# Altium integrated library Cypress PLD Flash370i.IntLib: 84 symbols (part 4 of 4)
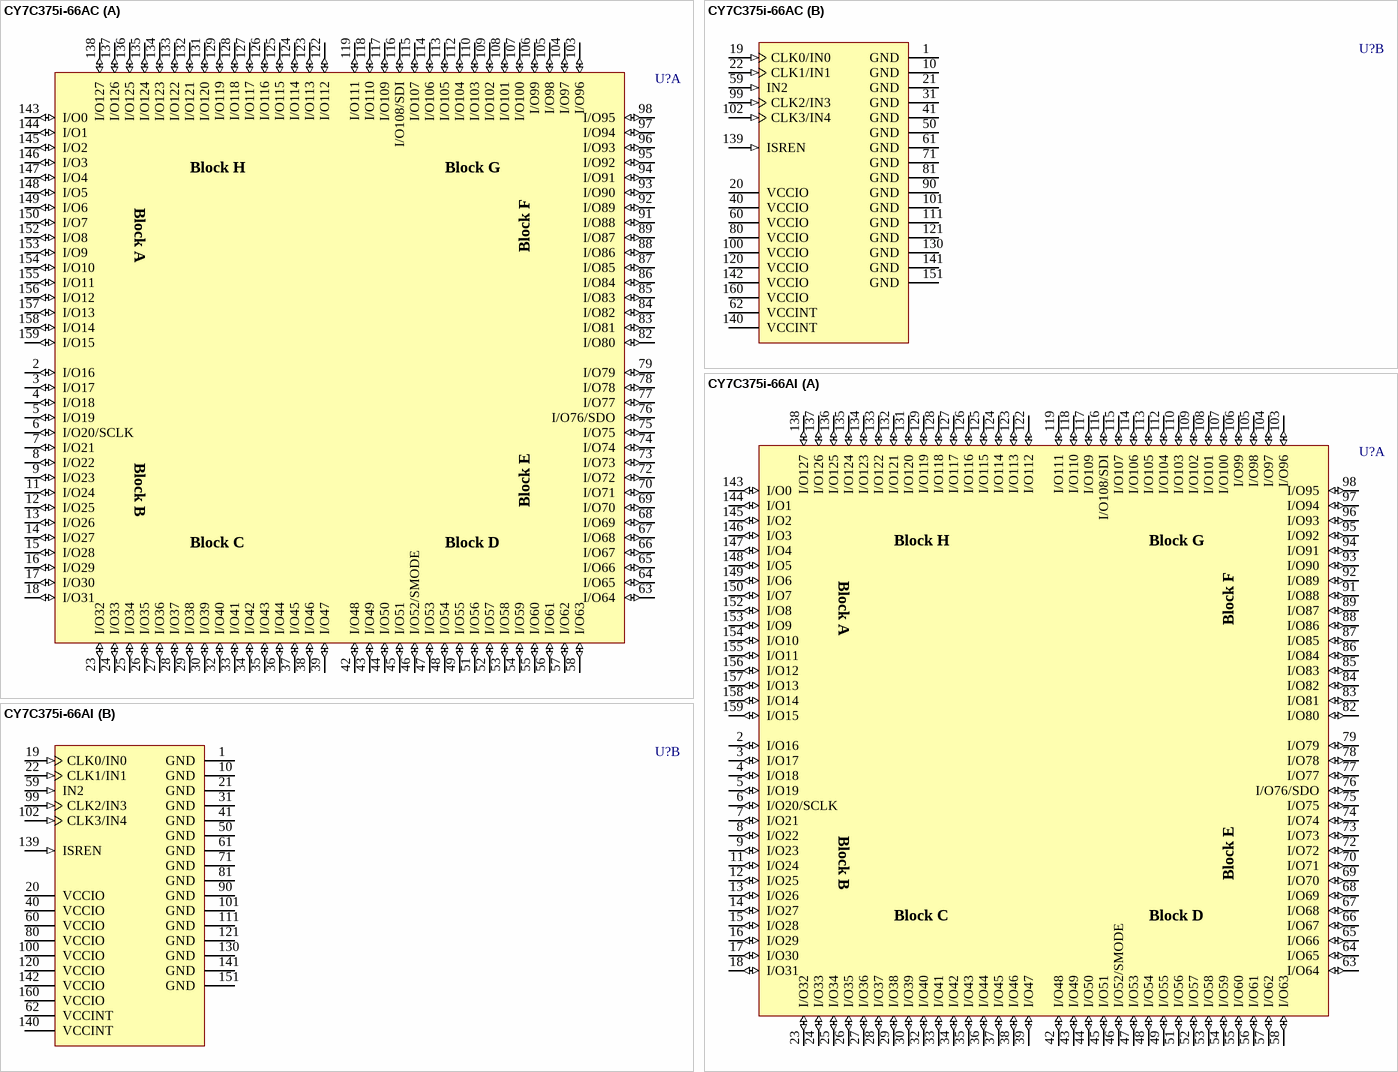
[diagram p22: symbols CY7C375i-66AC to CY7C375i-66AI]

## CY7C375i-66AI
designator U?
Ultralogic 128-Macrocell Flash CPLD; ComponentAvailability: Not for New Design; Published: 11-Dec-2002; LatestRevisionDate: 13-Apr-2006; LatestRevisionNote: IPC-7351 Footprint Added.; DatasheetVersion: 10-Jul-2000; PackageVersion: Mar-2001; PackageReference: A160; Publisher: Altium Limited; PackageDescription: 160-Pin Thin Quad Flat Pack 0.5 mm Pitch; ComponentLink1Description: Manufacturer Link; ComponentLink1URL: http://www.cypress.com/; ComponentLink2Description: Datasheet; ComponentLink2URL: http://www.cypress.com/portal/server.pt/gateway/PTARGS_0_2_1524_209_259_43/http%3B/sjapp20.mis.cypress.com%3B7001/publishedcontent/publish/design_resources/datasheets/contents/cy7c375i_5.pdf
footprint A160_N (Thin QFP, 160-Leads, Body 24x24mm, Pitch 0.5mm, IPC Medium Density)
footprint A160_L (Thin QFP, 160-Leads, Body 24x24mm, Pitch 0.5mm, IPC High Density)
footprint A160_M (Thin QFP, 160-Leads, Body 24x24mm, Pitch 0.5mm, IPC Low Density)
3D model CY7C375i-A160 (160-Pin Thin Quad Flat Pack 0.5 mm Pitch)
part A pins: 2 I/O16 (io), 3 I/O17 (io), 4 I/O18 (io), 5 I/O19 (io), 6 I/O20/SCLK (io), 7 I/O21 (io), 8 I/O22 (io), 9 I/O23 (io), 11 I/O24 (io), 12 I/O25 (io), 13 I/O26 (io), 14 I/O27 (io), 15 I/O28 (io), 16 I/O29 (io), 17 I/O30 (io), 18 I/O31 (io), 23 I/O32 (io), 24 I/O33 (io), 25 I/O34 (io), 26 I/O35 (io), 27 I/O36 (io), 28 I/O37 (io), 29 I/O38 (io), 30 I/O39 (io), 32 I/O40 (io), 33 I/O41 (io), 34 I/O42 (io), 35 I/O43 (io), 36 I/O44 (io), 37 I/O45 (io), 38 I/O46 (io), 39 I/O47 (io), 42 I/O48 (io), 43 I/O49 (io), 44 I/O50 (io), 45 I/O51 (io), 46 I/O52/SMODE (io), 47 I/O53 (io), 48 I/O54 (io), 49 I/O55 (io), 51 I/O56 (io), 52 I/O57 (io), 53 I/O58 (io), 54 I/O59 (io), 55 I/O60 (io), 56 I/O61 (io), 57 I/O62 (io), 58 I/O63 (io), 63 I/O64 (io), 64 I/O65 (io), 65 I/O66 (io), 66 I/O67 (io), 67 I/O68 (io), 68 I/O69 (io), 69 I/O70 (io), 70 I/O71 (io), 72 I/O72 (io), 73 I/O73 (io), 74 I/O74 (io), 75 I/O75 (io), 76 I/O76/SDO (io), 77 I/O77 (io), 78 I/O78 (io), 79 I/O79 (io), 82 I/O80 (io), 83 I/O81 (io), 84 I/O82 (io), 85 I/O83 (io), 86 I/O84 (io), 87 I/O85 (io), 88 I/O86 (io), 89 I/O87 (io), 91 I/O88 (io), 92 I/O89 (io), 93 I/O90 (io), 94 I/O91 (io), 95 I/O92 (io), 96 I/O93 (io), 97 I/O94 (io), 98 I/O95 (io), 103 I/O96 (io), 104 I/O97 (io), 105 I/O98 (io), 106 I/O99 (io), 107 I/O100 (io), 108 I/O101 (io), 109 I/O102 (io), 110 I/O103 (io), 112 I/O104 (io), 113 I/O105 (io), 114 I/O106 (io), 115 I/O107 (io), 116 I/O108/SDI (io), 117 I/O109 (io), 118 I/O110 (io), 119 I/O111 (io), 122 I/O112 (io), 123 I/O113 (io), 124 I/O114 (io), 125 I/O115 (io), 126 I/O116 (io), 127 I/O117 (io), 128 I/O118 (io), 129 I/O119 (io), 131 I/O120 (io), 132 I/O121 (io), 133 I/O122 (io), 134 I/O123 (io), 135 I/O124 (io), 136 I/O125 (io), 137 I/O126 (io), 138 I/O127 (io), 143 I/O0 (io), 144 I/O1 (io), 145 I/O2 (io), 146 I/O3 (io), 147 I/O4 (io), 148 I/O5 (io), 149 I/O6 (io), 150 I/O7 (io), 152 I/O8 (io), 153 I/O9 (io), 154 I/O10 (io), 155 I/O11 (io), 156 I/O12 (io), 157 I/O13 (io), 158 I/O14 (io), 159 I/O15 (io)
part B pins: 1 GND (power), 10 GND (power), 19 CLK0/IN0 (in), 20 VCCIO (power), 21 GND (power), 22 CLK1/IN1 (in), 31 GND (power), 40 VCCIO (power), 41 GND (power), 50 GND (power), 59 IN2 (in), 60 VCCIO (power), 61 GND (power), 62 VCCINT (power), 71 GND (power), 80 VCCIO (power), 81 GND (power), 90 GND (power), 99 CLK2/IN3 (in), 100 VCCIO (power), 101 GND (power), 102 CLK3/IN4 (in), 111 GND (power), 120 VCCIO (power), 121 GND (power), 130 GND (power), 139 ISREN (in), 140 VCCINT (power), 141 GND (power), 142 VCCIO (power), 151 GND (power), 160 VCCIO (power)
part A text: Block H; Block G; Block A; Block F; Block B; Block E; Block C; Block D

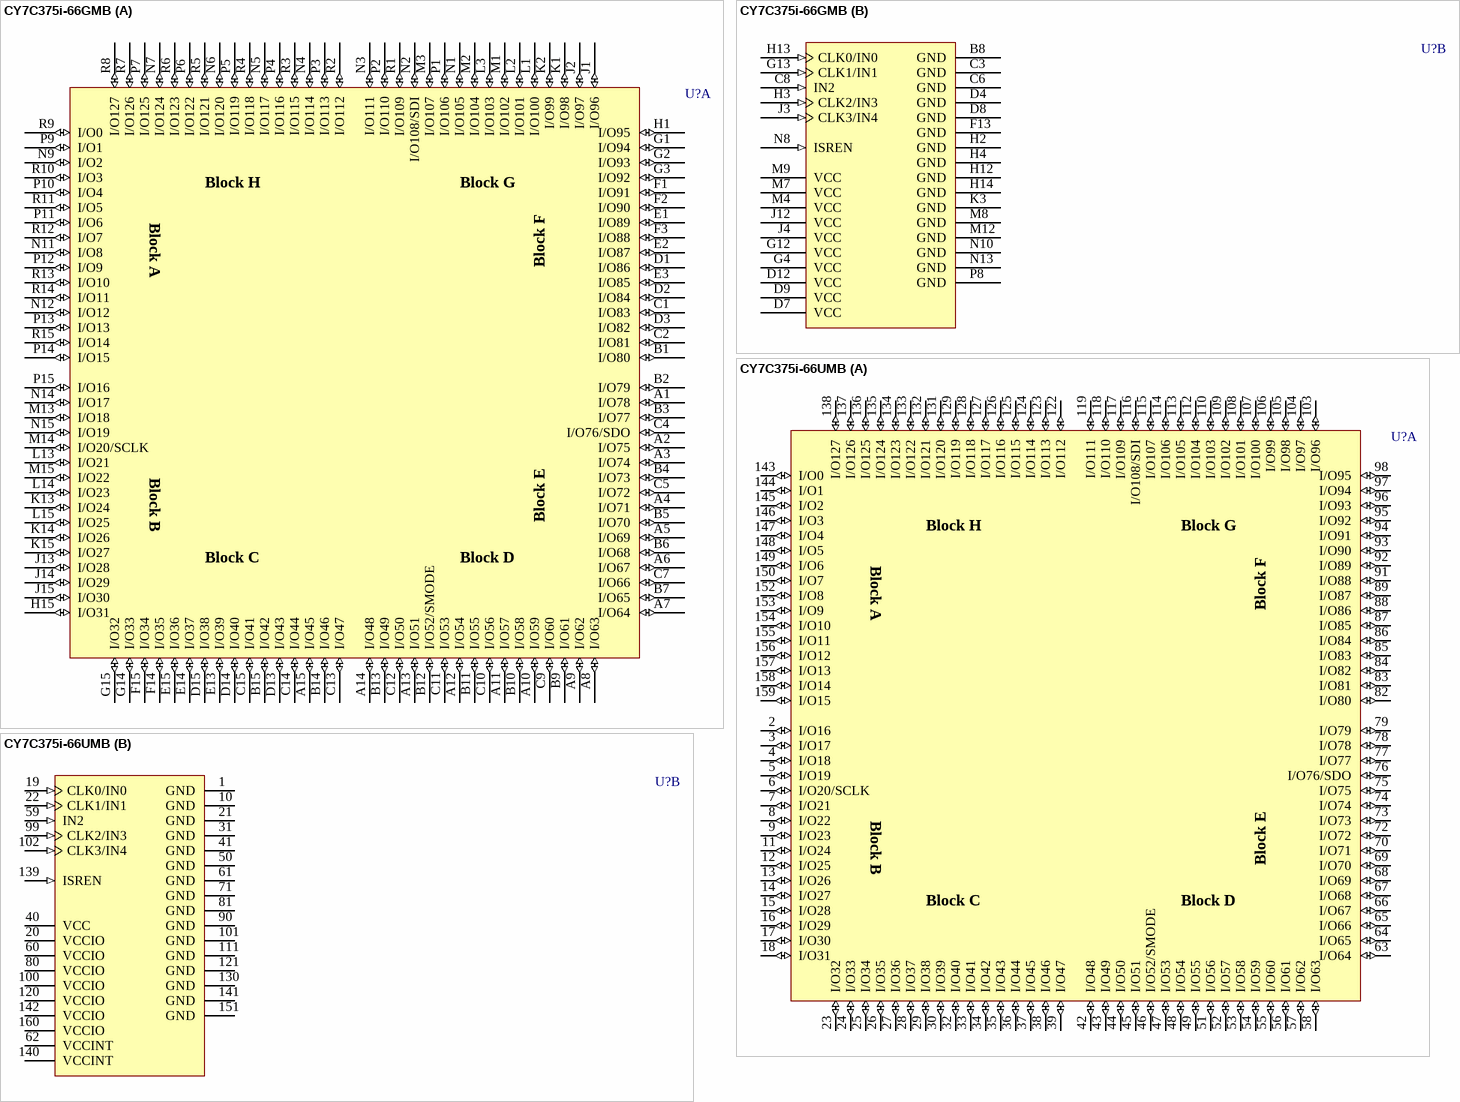
[diagram p14: symbols CY7C375i-66GMB to CY7C375i-66UMB]

## CY7C375i-66GMB
designator U?
Ultralogic 128-Macrocell Flash CPLD; ComponentAvailability: Not for New Design; Published: 11-Dec-2002; LatestRevisionDate: 04-Mar-2005; LatestRevisionNote: Stylized 3D Model Added.; DatasheetVersion: 10-Jul-2000; PackageVersion: Jul-2001; PackageReference: G160; Publisher: Altium Limited; PackageDescription: 160-Pin Pin Grid Array 2.54 mm Pitch; ComponentLink1Description: Manufacturer Link; ComponentLink1URL: http://www.cypress.com/; ComponentLink2Description: Datasheet; ComponentLink2URL: http://www.cypress.com/portal/server.pt/gateway/PTARGS_0_2_1524_209_259_43/http%3B/sjapp20.mis.cypress.com%3B7001/publishedcontent/publish/design_resources/datasheets/contents/cy7c375i_5.pdf
footprint G160 (PGA, 160-Leads, Body 39.8x39.8mm, Pitch 2.54mm)
3D model CY7C375i-G160 (160-Pin Pin Grid Array 2.54 mm Pitch)
part A pins: A1 I/O78 (io), A2 I/O75 (io), A3 I/O74 (io), A4 I/O71 (io), A5 I/O69 (io), A6 I/O67 (io), A7 I/O64 (io), A8 I/O63 (io), A9 I/O62 (io), A10 I/O59 (io), A11 I/O57 (io), A12 I/O54 (io), A13 I/O51 (io), A14 I/O48 (io), A15 I/O45 (io), B1 I/O80 (io), B2 I/O79 (io), B3 I/O77 (io), B4 I/O73 (io), B5 I/O70 (io), B6 I/O68 (io), B7 I/O65 (io), B9 I/O61 (io), B10 I/O58 (io), B11 I/O55 (io), B12 I/O52/SMODE (io), B13 I/O49 (io), B14 I/O46 (io), B15 I/O42 (io), C1 I/O83 (io), C2 I/O81 (io), C4 I/O76/SDO (io), C5 I/O72 (io), C7 I/O66 (io), C9 I/O60 (io), C10 I/O56 (io), C11 I/O53 (io), C12 I/O50 (io), C13 I/O47 (io), C14 I/O44 (io), C15 I/O41 (io), D1 I/O86 (io), D2 I/O84 (io), D3 I/O82 (io), D13 I/O43 (io), D14 I/O40 (io), D15 I/O38 (io), E1 I/O89 (io), E2 I/O87 (io), E3 I/O85 (io), E13 I/O39 (io), E14 I/O37 (io), E15 I/O36 (io), F1 I/O91 (io), F2 I/O90 (io), F3 I/O88 (io), F14 I/O35 (io), F15 I/O34 (io), G1 I/O94 (io), G2 I/O93 (io), G3 I/O92 (io), G14 I/O33 (io), G15 I/O32 (io), H1 I/O95 (io), H15 I/O31 (io), J1 I/O96 (io), J2 I/O97 (io), J13 I/O28 (io), J14 I/O29 (io), J15 I/O30 (io), K1 I/O98 (io), K2 I/O99 (io), K13 I/O24 (io), K14 I/O26 (io), K15 I/O27 (io), L1 I/O100 (io), L2 I/O101 (io), L3 I/O103 (io), L13 I/O21 (io), L14 I/O23 (io), L15 I/O25 (io), M1 I/O102 (io), M2 I/O104 (io), M3 I/O107 (io), M13 I/O18 (io), M14 I/O20/SCLK (io), M15 I/O22 (io), N1 I/O105 (io), N2 I/O108/SDI (io), N3 I/O111 (io), N4 I/O114 (io), N5 I/O117 (io), N6 I/O120 (io), N7 I/O124 (io), N9 I/O2 (io), N11 I/O8 (io), N12 I/O12 (io), N14 I/O17 (io), N15 I/O19 (io), P1 I/O106 (io), P2 I/O110 (io), P3 I/O113 (io), P4 I/O116 (io), P5 I/O119 (io), P6 I/O122 (io), P7 I/O125 (io), P9 I/O1 (io), P10 I/O4 (io), P11 I/O6 (io), P12 I/O9 (io), P13 I/O13 (io), P14 I/O15 (io), P15 I/O16 (io), R1 I/O109 (io), R2 I/O112 (io), R3 I/O115 (io), R4 I/O118 (io), R5 I/O121 (io), R6 I/O123 (io), R7 I/O126 (io), R8 I/O127 (io), R9 I/O0 (io), R10 I/O3 (io), R11 I/O5 (io), R12 I/O7 (io), R13 I/O10 (io), R14 I/O11 (io), R15 I/O14 (io)
part B pins: B8 GND (power), C3 GND (power), C6 GND (power), C8 IN2 (in), D4 GND (power), D7 VCC (power), D8 GND (power), D9 VCC (power), D12 VCC (power), F13 GND (power), G4 VCC (power), G12 VCC (power), G13 CLK1/IN1 (in), H2 GND (power), H3 CLK2/IN3 (in), H4 GND (power), H12 GND (power), H13 CLK0/IN0 (in), H14 GND (power), J3 CLK3/IN4 (in), J4 VCC (power), J12 VCC (power), K3 GND (power), M4 VCC (power), M7 VCC (power), M8 GND (power), M9 VCC (power), M12 GND (power), N8 ISREN (in), N10 GND (power), N13 GND (power), P8 GND (power)
part A text: Block H; Block G; Block A; Block F; Block B; Block E; Block C; Block D

## CY7C375i-66UMB
designator U?
Ultralogic 128-Macrocell Flash CPLD; ComponentAvailability: Not for New Design; Published: 11-Dec-2002; LatestRevisionDate: 13-Apr-2006; LatestRevisionNote: IPC-7351 Footprint Added.; DatasheetVersion: 10-Jul-2000; PackageVersion: Dec-2000; PackageReference: U162; Publisher: Altium Limited; PackageDescription: 160-Pin Ceramic Cavity Up Quad Flat Pack 0.65 mm Pitch; ComponentLink1Description: Manufacturer Link; ComponentLink1URL: http://www.cypress.com/; ComponentLink2Description: Datasheet; ComponentLink2URL: http://www.cypress.com/portal/server.pt/gateway/PTARGS_0_2_1524_209_259_43/http%3B/sjapp20.mis.cypress.com%3B7001/publishedcontent/publish/design_resources/datasheets/contents/cy7c375i_5.pdf
footprint U162_N (QFP, 160-Leads, Body 28 x 28mm, Pitch 0.65mm, IPC Medium Density)
footprint U162_L (QFP, 160-Leads, Body 28 x 28mm, Pitch 0.65mm, IPC High Density)
footprint U162_M (QFP, 160-Leads, Body 28 x 28mm, Pitch 0.65mm, IPC Low Density)
3D model CY7C375i-U162 (160-Pin Ceramic Cavity Up Quad Flat Pack 0.65 mm Pitch)
part A pins: 2 I/O16 (io), 3 I/O17 (io), 4 I/O18 (io), 5 I/O19 (io), 6 I/O20/SCLK (io), 7 I/O21 (io), 8 I/O22 (io), 9 I/O23 (io), 11 I/O24 (io), 12 I/O25 (io), 13 I/O26 (io), 14 I/O27 (io), 15 I/O28 (io), 16 I/O29 (io), 17 I/O30 (io), 18 I/O31 (io), 23 I/O32 (io), 24 I/O33 (io), 25 I/O34 (io), 26 I/O35 (io), 27 I/O36 (io), 28 I/O37 (io), 29 I/O38 (io), 30 I/O39 (io), 32 I/O40 (io), 33 I/O41 (io), 34 I/O42 (io), 35 I/O43 (io), 36 I/O44 (io), 37 I/O45 (io), 38 I/O46 (io), 39 I/O47 (io), 42 I/O48 (io), 43 I/O49 (io), 44 I/O50 (io), 45 I/O51 (io), 46 I/O52/SMODE (io), 47 I/O53 (io), 48 I/O54 (io), 49 I/O55 (io), 51 I/O56 (io), 52 I/O57 (io), 53 I/O58 (io), 54 I/O59 (io), 55 I/O60 (io), 56 I/O61 (io), 57 I/O62 (io), 58 I/O63 (io), 63 I/O64 (io), 64 I/O65 (io), 65 I/O66 (io), 66 I/O67 (io), 67 I/O68 (io), 68 I/O69 (io), 69 I/O70 (io), 70 I/O71 (io), 72 I/O72 (io), 73 I/O73 (io), 74 I/O74 (io), 75 I/O75 (io), 76 I/O76/SDO (io), 77 I/O77 (io), 78 I/O78 (io), 79 I/O79 (io), 82 I/O80 (io), 83 I/O81 (io), 84 I/O82 (io), 85 I/O83 (io), 86 I/O84 (io), 87 I/O85 (io), 88 I/O86 (io), 89 I/O87 (io), 91 I/O88 (io), 92 I/O89 (io), 93 I/O90 (io), 94 I/O91 (io), 95 I/O92 (io), 96 I/O93 (io), 97 I/O94 (io), 98 I/O95 (io), 103 I/O96 (io), 104 I/O97 (io), 105 I/O98 (io), 106 I/O99 (io), 107 I/O100 (io), 108 I/O101 (io), 109 I/O102 (io), 110 I/O103 (io), 112 I/O104 (io), 113 I/O105 (io), 114 I/O106 (io), 115 I/O107 (io), 116 I/O108/SDI (io), 117 I/O109 (io), 118 I/O110 (io), 119 I/O111 (io), 122 I/O112 (io), 123 I/O113 (io), 124 I/O114 (io), 125 I/O115 (io), 126 I/O116 (io), 127 I/O117 (io), 128 I/O118 (io), 129 I/O119 (io), 131 I/O120 (io), 132 I/O121 (io), 133 I/O122 (io), 134 I/O123 (io), 135 I/O124 (io), 136 I/O125 (io), 137 I/O126 (io), 138 I/O127 (io), 143 I/O0 (io), 144 I/O1 (io), 145 I/O2 (io), 146 I/O3 (io), 147 I/O4 (io), 148 I/O5 (io), 149 I/O6 (io), 150 I/O7 (io), 152 I/O8 (io), 153 I/O9 (io), 154 I/O10 (io), 155 I/O11 (io), 156 I/O12 (io), 157 I/O13 (io), 158 I/O14 (io), 159 I/O15 (io)
part B pins: 1 GND (power), 10 GND (power), 19 CLK0/IN0 (in), 20 VCCIO (power), 21 GND (power), 22 CLK1/IN1 (in), 31 GND (power), 40 VCC (power), 41 GND (power), 50 GND (power), 59 IN2 (in), 60 VCCIO (power), 61 GND (power), 62 VCCINT (power), 71 GND (power), 80 VCCIO (power), 81 GND (power), 90 GND (power), 99 CLK2/IN3 (in), 100 VCCIO (power), 101 GND (power), 102 CLK3/IN4 (in), 111 GND (power), 120 VCCIO (power), 121 GND (power), 130 GND (power), 139 ISREN (in), 140 VCCINT (power), 141 GND (power), 142 VCCIO (power), 151 GND (power), 160 VCCIO (power)
part A text: Block H; Block G; Block A; Block F; Block B; Block E; Block C; Block D

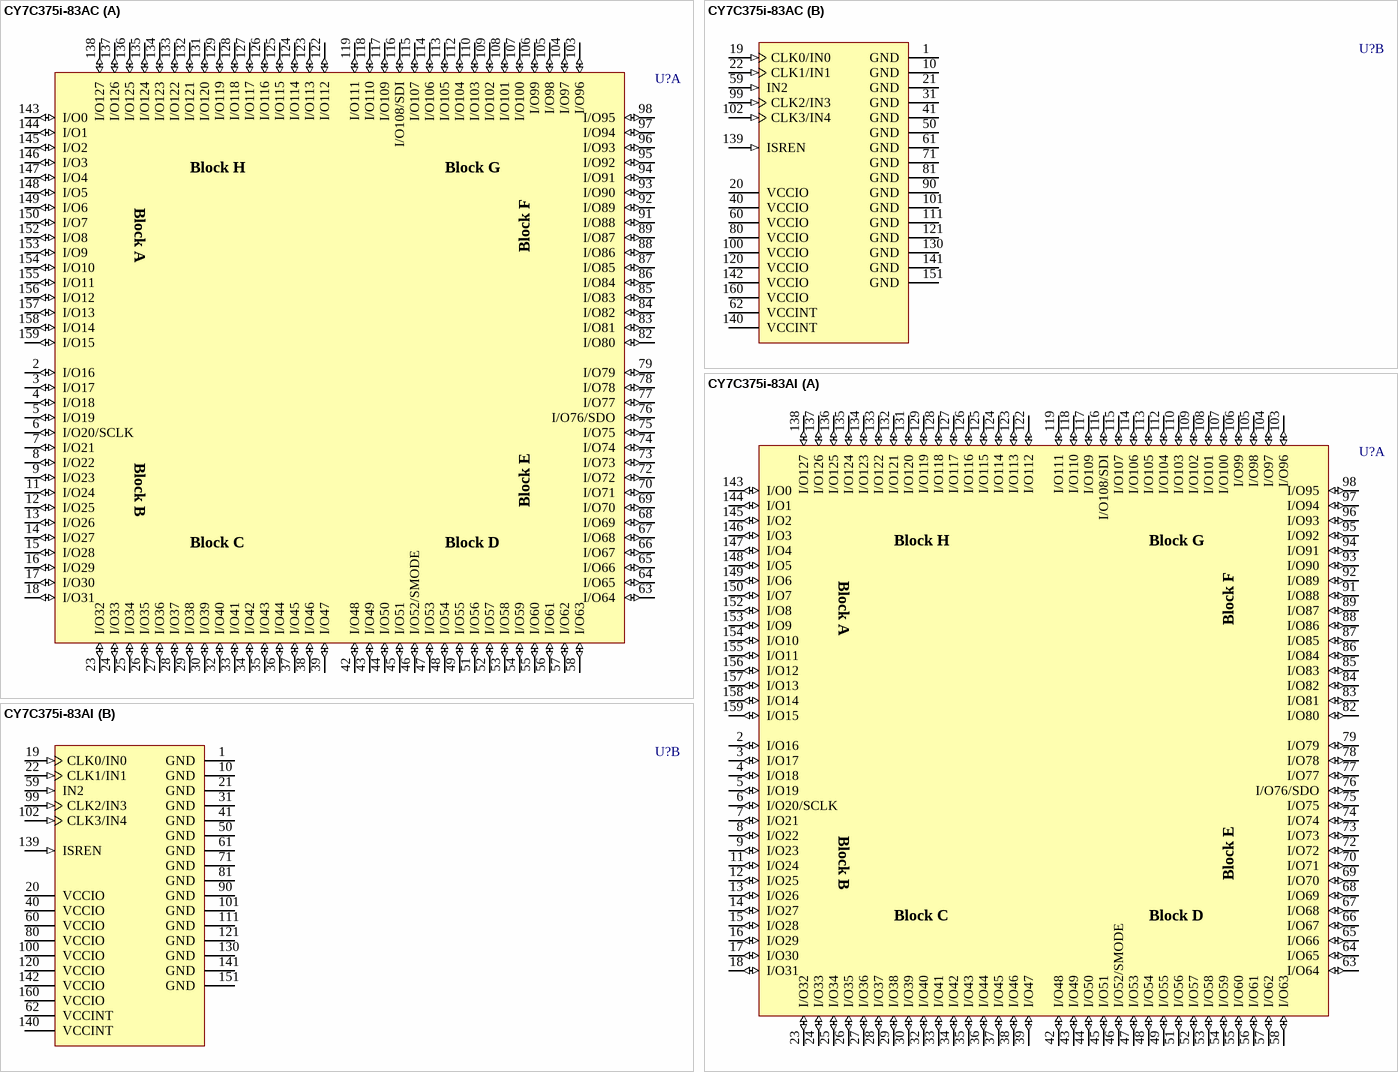
[diagram p15: symbols CY7C375i-83AC to CY7C375i-83AI]

## CY7C375i-83AC
designator U?
Ultralogic 128-Macrocell Flash CPLD; ComponentAvailability: Not for New Design; Published: 11-Dec-2002; LatestRevisionDate: 13-Apr-2006; LatestRevisionNote: IPC-7351 Footprint Added.; DatasheetVersion: 10-Jul-2000; PackageVersion: Mar-2001; PackageReference: A160; Publisher: Altium Limited; PackageDescription: 160-Pin Thin Quad Flat Pack 0.5 mm Pitch; ComponentLink1Description: Manufacturer Link; ComponentLink1URL: http://www.cypress.com/; ComponentLink2Description: Datasheet; ComponentLink2URL: http://www.cypress.com/portal/server.pt/gateway/PTARGS_0_2_1524_209_259_43/http%3B/sjapp20.mis.cypress.com%3B7001/publishedcontent/publish/design_resources/datasheets/contents/cy7c375i_5.pdf
footprint A160_N (Thin QFP, 160-Leads, Body 24x24mm, Pitch 0.5mm, IPC Medium Density)
footprint A160_L (Thin QFP, 160-Leads, Body 24x24mm, Pitch 0.5mm, IPC High Density)
footprint A160_M (Thin QFP, 160-Leads, Body 24x24mm, Pitch 0.5mm, IPC Low Density)
3D model CY7C375i-A160 (160-Pin Thin Quad Flat Pack 0.5 mm Pitch)
part A pins: 2 I/O16 (io), 3 I/O17 (io), 4 I/O18 (io), 5 I/O19 (io), 6 I/O20/SCLK (io), 7 I/O21 (io), 8 I/O22 (io), 9 I/O23 (io), 11 I/O24 (io), 12 I/O25 (io), 13 I/O26 (io), 14 I/O27 (io), 15 I/O28 (io), 16 I/O29 (io), 17 I/O30 (io), 18 I/O31 (io), 23 I/O32 (io), 24 I/O33 (io), 25 I/O34 (io), 26 I/O35 (io), 27 I/O36 (io), 28 I/O37 (io), 29 I/O38 (io), 30 I/O39 (io), 32 I/O40 (io), 33 I/O41 (io), 34 I/O42 (io), 35 I/O43 (io), 36 I/O44 (io), 37 I/O45 (io), 38 I/O46 (io), 39 I/O47 (io), 42 I/O48 (io), 43 I/O49 (io), 44 I/O50 (io), 45 I/O51 (io), 46 I/O52/SMODE (io), 47 I/O53 (io), 48 I/O54 (io), 49 I/O55 (io), 51 I/O56 (io), 52 I/O57 (io), 53 I/O58 (io), 54 I/O59 (io), 55 I/O60 (io), 56 I/O61 (io), 57 I/O62 (io), 58 I/O63 (io), 63 I/O64 (io), 64 I/O65 (io), 65 I/O66 (io), 66 I/O67 (io), 67 I/O68 (io), 68 I/O69 (io), 69 I/O70 (io), 70 I/O71 (io), 72 I/O72 (io), 73 I/O73 (io), 74 I/O74 (io), 75 I/O75 (io), 76 I/O76/SDO (io), 77 I/O77 (io), 78 I/O78 (io), 79 I/O79 (io), 82 I/O80 (io), 83 I/O81 (io), 84 I/O82 (io), 85 I/O83 (io), 86 I/O84 (io), 87 I/O85 (io), 88 I/O86 (io), 89 I/O87 (io), 91 I/O88 (io), 92 I/O89 (io), 93 I/O90 (io), 94 I/O91 (io), 95 I/O92 (io), 96 I/O93 (io), 97 I/O94 (io), 98 I/O95 (io), 103 I/O96 (io), 104 I/O97 (io), 105 I/O98 (io), 106 I/O99 (io), 107 I/O100 (io), 108 I/O101 (io), 109 I/O102 (io), 110 I/O103 (io), 112 I/O104 (io), 113 I/O105 (io), 114 I/O106 (io), 115 I/O107 (io), 116 I/O108/SDI (io), 117 I/O109 (io), 118 I/O110 (io), 119 I/O111 (io), 122 I/O112 (io), 123 I/O113 (io), 124 I/O114 (io), 125 I/O115 (io), 126 I/O116 (io), 127 I/O117 (io), 128 I/O118 (io), 129 I/O119 (io), 131 I/O120 (io), 132 I/O121 (io), 133 I/O122 (io), 134 I/O123 (io), 135 I/O124 (io), 136 I/O125 (io), 137 I/O126 (io), 138 I/O127 (io), 143 I/O0 (io), 144 I/O1 (io), 145 I/O2 (io), 146 I/O3 (io), 147 I/O4 (io), 148 I/O5 (io), 149 I/O6 (io), 150 I/O7 (io), 152 I/O8 (io), 153 I/O9 (io), 154 I/O10 (io), 155 I/O11 (io), 156 I/O12 (io), 157 I/O13 (io), 158 I/O14 (io), 159 I/O15 (io)
part B pins: 1 GND (power), 10 GND (power), 19 CLK0/IN0 (in), 20 VCCIO (power), 21 GND (power), 22 CLK1/IN1 (in), 31 GND (power), 40 VCCIO (power), 41 GND (power), 50 GND (power), 59 IN2 (in), 60 VCCIO (power), 61 GND (power), 62 VCCINT (power), 71 GND (power), 80 VCCIO (power), 81 GND (power), 90 GND (power), 99 CLK2/IN3 (in), 100 VCCIO (power), 101 GND (power), 102 CLK3/IN4 (in), 111 GND (power), 120 VCCIO (power), 121 GND (power), 130 GND (power), 139 ISREN (in), 140 VCCINT (power), 141 GND (power), 142 VCCIO (power), 151 GND (power), 160 VCCIO (power)
part A text: Block H; Block G; Block A; Block F; Block B; Block E; Block C; Block D

## CY7C375i-83AI
designator U?
Ultralogic 128-Macrocell Flash CPLD; ComponentAvailability: Not for New Design; Published: 11-Dec-2002; LatestRevisionDate: 13-Apr-2006; LatestRevisionNote: IPC-7351 Footprint Added.; DatasheetVersion: 10-Jul-2000; PackageVersion: Mar-2001; PackageReference: A160; Publisher: Altium Limited; PackageDescription: 160-Pin Thin Quad Flat Pack 0.5 mm Pitch; ComponentLink1Description: Manufacturer Link; ComponentLink1URL: http://www.cypress.com/; ComponentLink2Description: Datasheet; ComponentLink2URL: http://www.cypress.com/portal/server.pt/gateway/PTARGS_0_2_1524_209_259_43/http%3B/sjapp20.mis.cypress.com%3B7001/publishedcontent/publish/design_resources/datasheets/contents/cy7c375i_5.pdf
footprint A160_N (Thin QFP, 160-Leads, Body 24x24mm, Pitch 0.5mm, IPC Medium Density)
footprint A160_L (Thin QFP, 160-Leads, Body 24x24mm, Pitch 0.5mm, IPC High Density)
footprint A160_M (Thin QFP, 160-Leads, Body 24x24mm, Pitch 0.5mm, IPC Low Density)
3D model CY7C375i-A160 (160-Pin Thin Quad Flat Pack 0.5 mm Pitch)
part A pins: 2 I/O16 (io), 3 I/O17 (io), 4 I/O18 (io), 5 I/O19 (io), 6 I/O20/SCLK (io), 7 I/O21 (io), 8 I/O22 (io), 9 I/O23 (io), 11 I/O24 (io), 12 I/O25 (io), 13 I/O26 (io), 14 I/O27 (io), 15 I/O28 (io), 16 I/O29 (io), 17 I/O30 (io), 18 I/O31 (io), 23 I/O32 (io), 24 I/O33 (io), 25 I/O34 (io), 26 I/O35 (io), 27 I/O36 (io), 28 I/O37 (io), 29 I/O38 (io), 30 I/O39 (io), 32 I/O40 (io), 33 I/O41 (io), 34 I/O42 (io), 35 I/O43 (io), 36 I/O44 (io), 37 I/O45 (io), 38 I/O46 (io), 39 I/O47 (io), 42 I/O48 (io), 43 I/O49 (io), 44 I/O50 (io), 45 I/O51 (io), 46 I/O52/SMODE (io), 47 I/O53 (io), 48 I/O54 (io), 49 I/O55 (io), 51 I/O56 (io), 52 I/O57 (io), 53 I/O58 (io), 54 I/O59 (io), 55 I/O60 (io), 56 I/O61 (io), 57 I/O62 (io), 58 I/O63 (io), 63 I/O64 (io), 64 I/O65 (io), 65 I/O66 (io), 66 I/O67 (io), 67 I/O68 (io), 68 I/O69 (io), 69 I/O70 (io), 70 I/O71 (io), 72 I/O72 (io), 73 I/O73 (io), 74 I/O74 (io), 75 I/O75 (io), 76 I/O76/SDO (io), 77 I/O77 (io), 78 I/O78 (io), 79 I/O79 (io), 82 I/O80 (io), 83 I/O81 (io), 84 I/O82 (io), 85 I/O83 (io), 86 I/O84 (io), 87 I/O85 (io), 88 I/O86 (io), 89 I/O87 (io), 91 I/O88 (io), 92 I/O89 (io), 93 I/O90 (io), 94 I/O91 (io), 95 I/O92 (io), 96 I/O93 (io), 97 I/O94 (io), 98 I/O95 (io), 103 I/O96 (io), 104 I/O97 (io), 105 I/O98 (io), 106 I/O99 (io), 107 I/O100 (io), 108 I/O101 (io), 109 I/O102 (io), 110 I/O103 (io), 112 I/O104 (io), 113 I/O105 (io), 114 I/O106 (io), 115 I/O107 (io), 116 I/O108/SDI (io), 117 I/O109 (io), 118 I/O110 (io), 119 I/O111 (io), 122 I/O112 (io), 123 I/O113 (io), 124 I/O114 (io), 125 I/O115 (io), 126 I/O116 (io), 127 I/O117 (io), 128 I/O118 (io), 129 I/O119 (io), 131 I/O120 (io), 132 I/O121 (io), 133 I/O122 (io), 134 I/O123 (io), 135 I/O124 (io), 136 I/O125 (io), 137 I/O126 (io), 138 I/O127 (io), 143 I/O0 (io), 144 I/O1 (io), 145 I/O2 (io), 146 I/O3 (io), 147 I/O4 (io), 148 I/O5 (io), 149 I/O6 (io), 150 I/O7 (io), 152 I/O8 (io), 153 I/O9 (io), 154 I/O10 (io), 155 I/O11 (io), 156 I/O12 (io), 157 I/O13 (io), 158 I/O14 (io), 159 I/O15 (io)
part B pins: 1 GND (power), 10 GND (power), 19 CLK0/IN0 (in), 20 VCCIO (power), 21 GND (power), 22 CLK1/IN1 (in), 31 GND (power), 40 VCCIO (power), 41 GND (power), 50 GND (power), 59 IN2 (in), 60 VCCIO (power), 61 GND (power), 62 VCCINT (power), 71 GND (power), 80 VCCIO (power), 81 GND (power), 90 GND (power), 99 CLK2/IN3 (in), 100 VCCIO (power), 101 GND (power), 102 CLK3/IN4 (in), 111 GND (power), 120 VCCIO (power), 121 GND (power), 130 GND (power), 139 ISREN (in), 140 VCCINT (power), 141 GND (power), 142 VCCIO (power), 151 GND (power), 160 VCCIO (power)
part A text: Block H; Block G; Block A; Block F; Block B; Block E; Block C; Block D

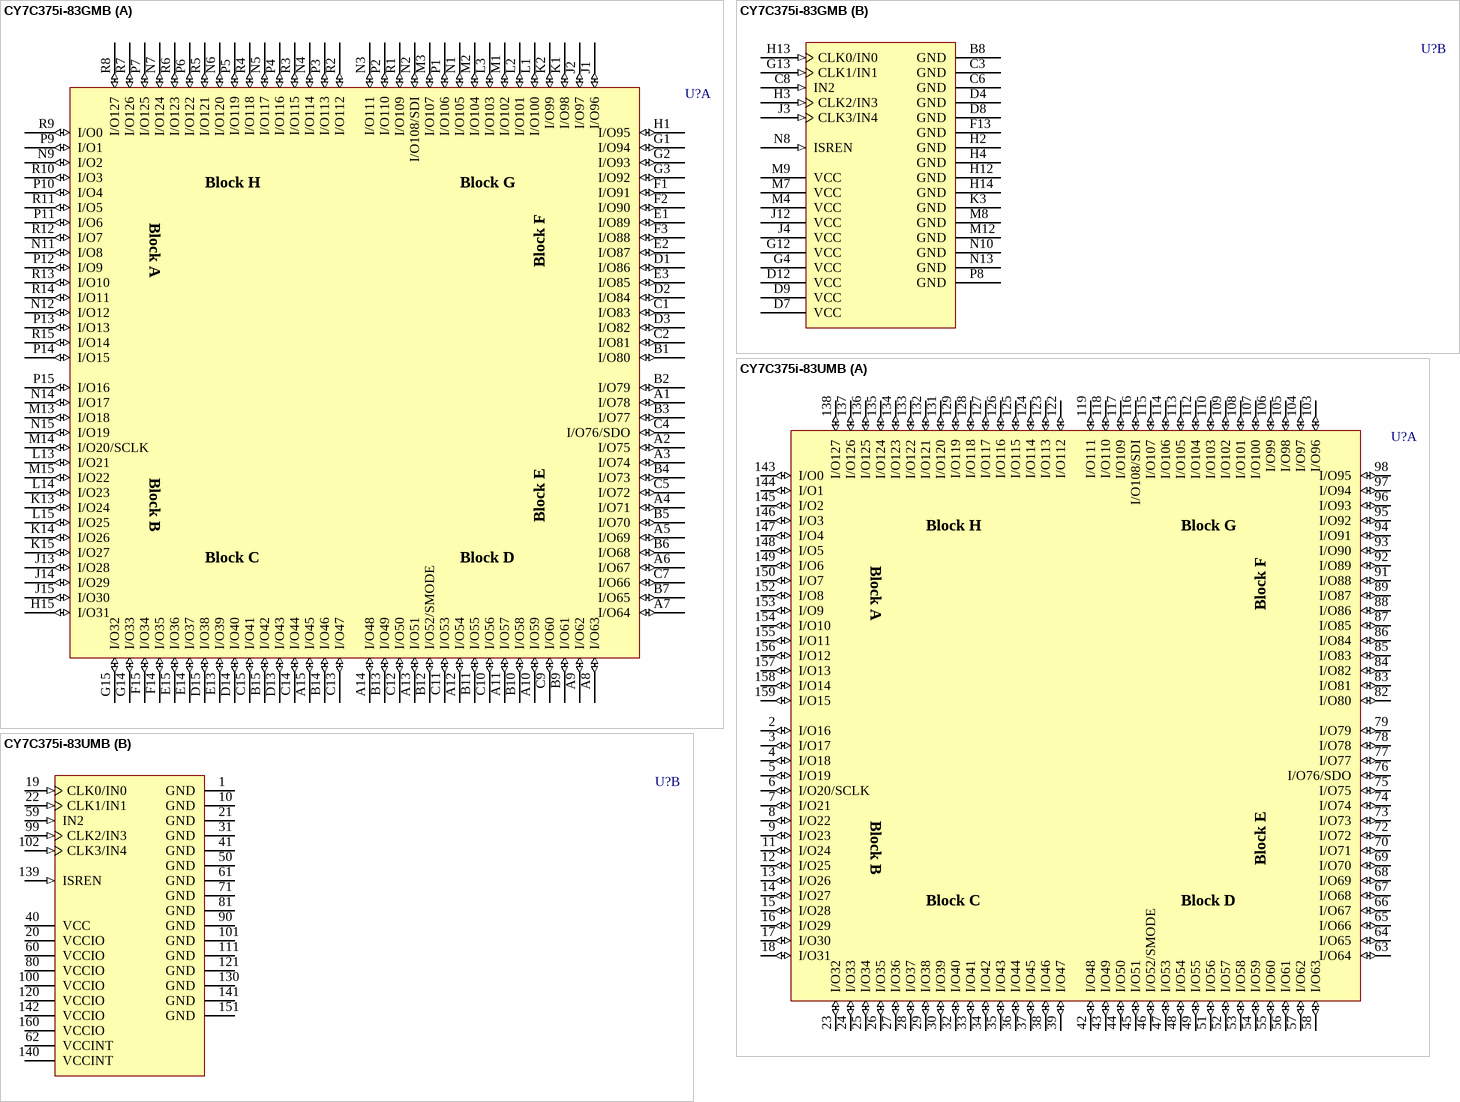
[diagram p16: symbols CY7C375i-83GMB to CY7C375i-83UMB]

## CY7C375i-83GMB
designator U?
Ultralogic 128-Macrocell Flash CPLD; ComponentAvailability: Not for New Design; Published: 11-Dec-2002; LatestRevisionDate: 04-Mar-2005; LatestRevisionNote: Stylized 3D Model Added.; DatasheetVersion: 10-Jul-2000; PackageVersion: Jul-2001; PackageReference: G160; Publisher: Altium Limited; PackageDescription: 160-Pin Pin Grid Array 2.54 mm Pitch; ComponentLink1Description: Manufacturer Link; ComponentLink1URL: http://www.cypress.com/; ComponentLink2Description: Datasheet; ComponentLink2URL: http://www.cypress.com/portal/server.pt/gateway/PTARGS_0_2_1524_209_259_43/http%3B/sjapp20.mis.cypress.com%3B7001/publishedcontent/publish/design_resources/datasheets/contents/cy7c375i_5.pdf
footprint G160 (PGA, 160-Leads, Body 39.8x39.8mm, Pitch 2.54mm)
3D model CY7C375i-G160 (160-Pin Pin Grid Array 2.54 mm Pitch)
part A pins: A1 I/O78 (io), A2 I/O75 (io), A3 I/O74 (io), A4 I/O71 (io), A5 I/O69 (io), A6 I/O67 (io), A7 I/O64 (io), A8 I/O63 (io), A9 I/O62 (io), A10 I/O59 (io), A11 I/O57 (io), A12 I/O54 (io), A13 I/O51 (io), A14 I/O48 (io), A15 I/O45 (io), B1 I/O80 (io), B2 I/O79 (io), B3 I/O77 (io), B4 I/O73 (io), B5 I/O70 (io), B6 I/O68 (io), B7 I/O65 (io), B9 I/O61 (io), B10 I/O58 (io), B11 I/O55 (io), B12 I/O52/SMODE (io), B13 I/O49 (io), B14 I/O46 (io), B15 I/O42 (io), C1 I/O83 (io), C2 I/O81 (io), C4 I/O76/SDO (io), C5 I/O72 (io), C7 I/O66 (io), C9 I/O60 (io), C10 I/O56 (io), C11 I/O53 (io), C12 I/O50 (io), C13 I/O47 (io), C14 I/O44 (io), C15 I/O41 (io), D1 I/O86 (io), D2 I/O84 (io), D3 I/O82 (io), D13 I/O43 (io), D14 I/O40 (io), D15 I/O38 (io), E1 I/O89 (io), E2 I/O87 (io), E3 I/O85 (io), E13 I/O39 (io), E14 I/O37 (io), E15 I/O36 (io), F1 I/O91 (io), F2 I/O90 (io), F3 I/O88 (io), F14 I/O35 (io), F15 I/O34 (io), G1 I/O94 (io), G2 I/O93 (io), G3 I/O92 (io), G14 I/O33 (io), G15 I/O32 (io), H1 I/O95 (io), H15 I/O31 (io), J1 I/O96 (io), J2 I/O97 (io), J13 I/O28 (io), J14 I/O29 (io), J15 I/O30 (io), K1 I/O98 (io), K2 I/O99 (io), K13 I/O24 (io), K14 I/O26 (io), K15 I/O27 (io), L1 I/O100 (io), L2 I/O101 (io), L3 I/O103 (io), L13 I/O21 (io), L14 I/O23 (io), L15 I/O25 (io), M1 I/O102 (io), M2 I/O104 (io), M3 I/O107 (io), M13 I/O18 (io), M14 I/O20/SCLK (io), M15 I/O22 (io), N1 I/O105 (io), N2 I/O108/SDI (io), N3 I/O111 (io), N4 I/O114 (io), N5 I/O117 (io), N6 I/O120 (io), N7 I/O124 (io), N9 I/O2 (io), N11 I/O8 (io), N12 I/O12 (io), N14 I/O17 (io), N15 I/O19 (io), P1 I/O106 (io), P2 I/O110 (io), P3 I/O113 (io), P4 I/O116 (io), P5 I/O119 (io), P6 I/O122 (io), P7 I/O125 (io), P9 I/O1 (io), P10 I/O4 (io), P11 I/O6 (io), P12 I/O9 (io), P13 I/O13 (io), P14 I/O15 (io), P15 I/O16 (io), R1 I/O109 (io), R2 I/O112 (io), R3 I/O115 (io), R4 I/O118 (io), R5 I/O121 (io), R6 I/O123 (io), R7 I/O126 (io), R8 I/O127 (io), R9 I/O0 (io), R10 I/O3 (io), R11 I/O5 (io), R12 I/O7 (io), R13 I/O10 (io), R14 I/O11 (io), R15 I/O14 (io)
part B pins: B8 GND (power), C3 GND (power), C6 GND (power), C8 IN2 (in), D4 GND (power), D7 VCC (power), D8 GND (power), D9 VCC (power), D12 VCC (power), F13 GND (power), G4 VCC (power), G12 VCC (power), G13 CLK1/IN1 (in), H2 GND (power), H3 CLK2/IN3 (in), H4 GND (power), H12 GND (power), H13 CLK0/IN0 (in), H14 GND (power), J3 CLK3/IN4 (in), J4 VCC (power), J12 VCC (power), K3 GND (power), M4 VCC (power), M7 VCC (power), M8 GND (power), M9 VCC (power), M12 GND (power), N8 ISREN (in), N10 GND (power), N13 GND (power), P8 GND (power)
part A text: Block H; Block G; Block A; Block F; Block B; Block E; Block C; Block D

## CY7C375i-83UMB
designator U?
Ultralogic 128-Macrocell Flash CPLD; ComponentAvailability: Not for New Design; Published: 11-Dec-2002; LatestRevisionDate: 13-Apr-2006; LatestRevisionNote: IPC-7351 Footprint Added.; DatasheetVersion: 10-Jul-2000; PackageVersion: Dec-2000; PackageReference: U162; Publisher: Altium Limited; PackageDescription: 160-Pin Ceramic Cavity Up Quad Flat Pack 0.65 mm Pitch; ComponentLink1Description: Manufacturer Link; ComponentLink1URL: http://www.cypress.com/; ComponentLink2Description: Datasheet; ComponentLink2URL: http://www.cypress.com/portal/server.pt/gateway/PTARGS_0_2_1524_209_259_43/http%3B/sjapp20.mis.cypress.com%3B7001/publishedcontent/publish/design_resources/datasheets/contents/cy7c375i_5.pdf
footprint U162_N (QFP, 160-Leads, Body 28 x 28mm, Pitch 0.65mm, IPC Medium Density)
footprint U162_L (QFP, 160-Leads, Body 28 x 28mm, Pitch 0.65mm, IPC High Density)
footprint U162_M (QFP, 160-Leads, Body 28 x 28mm, Pitch 0.65mm, IPC Low Density)
3D model CY7C375i-U162 (160-Pin Ceramic Cavity Up Quad Flat Pack 0.65 mm Pitch)
part A pins: 2 I/O16 (io), 3 I/O17 (io), 4 I/O18 (io), 5 I/O19 (io), 6 I/O20/SCLK (io), 7 I/O21 (io), 8 I/O22 (io), 9 I/O23 (io), 11 I/O24 (io), 12 I/O25 (io), 13 I/O26 (io), 14 I/O27 (io), 15 I/O28 (io), 16 I/O29 (io), 17 I/O30 (io), 18 I/O31 (io), 23 I/O32 (io), 24 I/O33 (io), 25 I/O34 (io), 26 I/O35 (io), 27 I/O36 (io), 28 I/O37 (io), 29 I/O38 (io), 30 I/O39 (io), 32 I/O40 (io), 33 I/O41 (io), 34 I/O42 (io), 35 I/O43 (io), 36 I/O44 (io), 37 I/O45 (io), 38 I/O46 (io), 39 I/O47 (io), 42 I/O48 (io), 43 I/O49 (io), 44 I/O50 (io), 45 I/O51 (io), 46 I/O52/SMODE (io), 47 I/O53 (io), 48 I/O54 (io), 49 I/O55 (io), 51 I/O56 (io), 52 I/O57 (io), 53 I/O58 (io), 54 I/O59 (io), 55 I/O60 (io), 56 I/O61 (io), 57 I/O62 (io), 58 I/O63 (io), 63 I/O64 (io), 64 I/O65 (io), 65 I/O66 (io), 66 I/O67 (io), 67 I/O68 (io), 68 I/O69 (io), 69 I/O70 (io), 70 I/O71 (io), 72 I/O72 (io), 73 I/O73 (io), 74 I/O74 (io), 75 I/O75 (io), 76 I/O76/SDO (io), 77 I/O77 (io), 78 I/O78 (io), 79 I/O79 (io), 82 I/O80 (io), 83 I/O81 (io), 84 I/O82 (io), 85 I/O83 (io), 86 I/O84 (io), 87 I/O85 (io), 88 I/O86 (io), 89 I/O87 (io), 91 I/O88 (io), 92 I/O89 (io), 93 I/O90 (io), 94 I/O91 (io), 95 I/O92 (io), 96 I/O93 (io), 97 I/O94 (io), 98 I/O95 (io), 103 I/O96 (io), 104 I/O97 (io), 105 I/O98 (io), 106 I/O99 (io), 107 I/O100 (io), 108 I/O101 (io), 109 I/O102 (io), 110 I/O103 (io), 112 I/O104 (io), 113 I/O105 (io), 114 I/O106 (io), 115 I/O107 (io), 116 I/O108/SDI (io), 117 I/O109 (io), 118 I/O110 (io), 119 I/O111 (io), 122 I/O112 (io), 123 I/O113 (io), 124 I/O114 (io), 125 I/O115 (io), 126 I/O116 (io), 127 I/O117 (io), 128 I/O118 (io), 129 I/O119 (io), 131 I/O120 (io), 132 I/O121 (io), 133 I/O122 (io), 134 I/O123 (io), 135 I/O124 (io), 136 I/O125 (io), 137 I/O126 (io), 138 I/O127 (io), 143 I/O0 (io), 144 I/O1 (io), 145 I/O2 (io), 146 I/O3 (io), 147 I/O4 (io), 148 I/O5 (io), 149 I/O6 (io), 150 I/O7 (io), 152 I/O8 (io), 153 I/O9 (io), 154 I/O10 (io), 155 I/O11 (io), 156 I/O12 (io), 157 I/O13 (io), 158 I/O14 (io), 159 I/O15 (io)
part B pins: 1 GND (power), 10 GND (power), 19 CLK0/IN0 (in), 20 VCCIO (power), 21 GND (power), 22 CLK1/IN1 (in), 31 GND (power), 40 VCC (power), 41 GND (power), 50 GND (power), 59 IN2 (in), 60 VCCIO (power), 61 GND (power), 62 VCCINT (power), 71 GND (power), 80 VCCIO (power), 81 GND (power), 90 GND (power), 99 CLK2/IN3 (in), 100 VCCIO (power), 101 GND (power), 102 CLK3/IN4 (in), 111 GND (power), 120 VCCIO (power), 121 GND (power), 130 GND (power), 139 ISREN (in), 140 VCCINT (power), 141 GND (power), 142 VCCIO (power), 151 GND (power), 160 VCCIO (power)
part A text: Block H; Block G; Block A; Block F; Block B; Block E; Block C; Block D

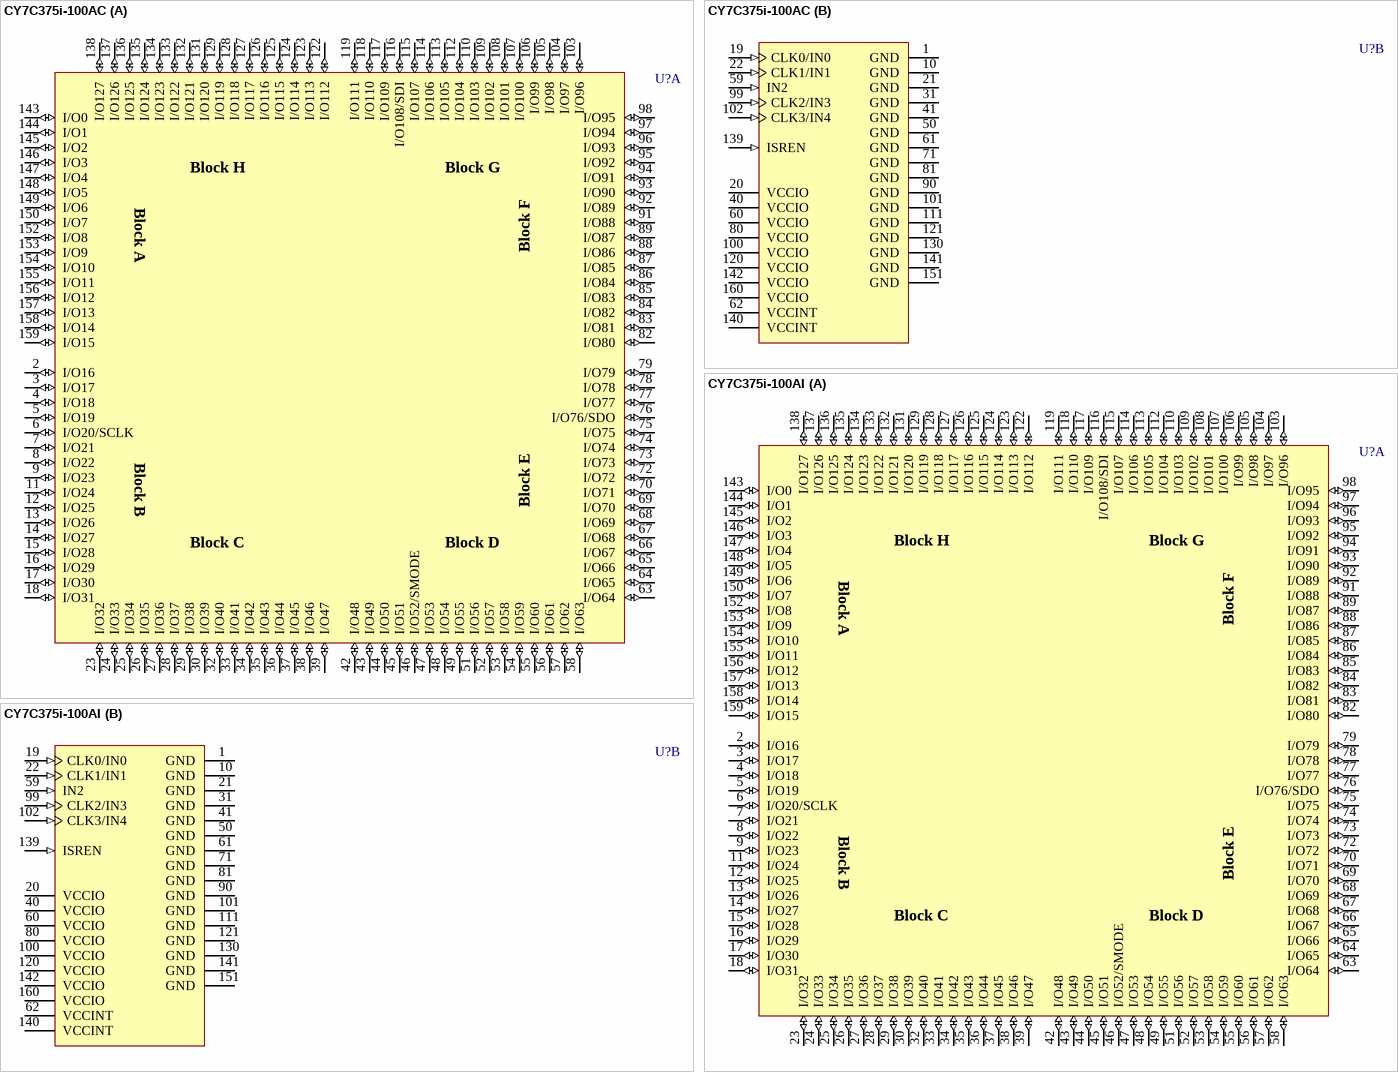
[diagram p17: symbols CY7C375i-100AC to CY7C375i-100AI]

## CY7C375i-100AC
designator U?
Ultralogic 128-Macrocell Flash CPLD; ComponentAvailability: Not for New Design; Published: 11-Dec-2002; LatestRevisionDate: 13-Apr-2006; LatestRevisionNote: IPC-7351 Footprint Added.; DatasheetVersion: 10-Jul-2000; PackageVersion: Mar-2001; PackageReference: A160; Publisher: Altium Limited; PackageDescription: 160-Pin Thin Quad Flat Pack 0.5 mm Pitch; ComponentLink1Description: Manufacturer Link; ComponentLink1URL: http://www.cypress.com/; ComponentLink2Description: Datasheet; ComponentLink2URL: http://www.cypress.com/portal/server.pt/gateway/PTARGS_0_2_1524_209_259_43/http%3B/sjapp20.mis.cypress.com%3B7001/publishedcontent/publish/design_resources/datasheets/contents/cy7c375i_5.pdf
footprint A160_N (Thin QFP, 160-Leads, Body 24x24mm, Pitch 0.5mm, IPC Medium Density)
footprint A160_L (Thin QFP, 160-Leads, Body 24x24mm, Pitch 0.5mm, IPC High Density)
footprint A160_M (Thin QFP, 160-Leads, Body 24x24mm, Pitch 0.5mm, IPC Low Density)
3D model CY7C375i-A160 (160-Pin Thin Quad Flat Pack 0.5 mm Pitch)
part A pins: 2 I/O16 (io), 3 I/O17 (io), 4 I/O18 (io), 5 I/O19 (io), 6 I/O20/SCLK (io), 7 I/O21 (io), 8 I/O22 (io), 9 I/O23 (io), 11 I/O24 (io), 12 I/O25 (io), 13 I/O26 (io), 14 I/O27 (io), 15 I/O28 (io), 16 I/O29 (io), 17 I/O30 (io), 18 I/O31 (io), 23 I/O32 (io), 24 I/O33 (io), 25 I/O34 (io), 26 I/O35 (io), 27 I/O36 (io), 28 I/O37 (io), 29 I/O38 (io), 30 I/O39 (io), 32 I/O40 (io), 33 I/O41 (io), 34 I/O42 (io), 35 I/O43 (io), 36 I/O44 (io), 37 I/O45 (io), 38 I/O46 (io), 39 I/O47 (io), 42 I/O48 (io), 43 I/O49 (io), 44 I/O50 (io), 45 I/O51 (io), 46 I/O52/SMODE (io), 47 I/O53 (io), 48 I/O54 (io), 49 I/O55 (io), 51 I/O56 (io), 52 I/O57 (io), 53 I/O58 (io), 54 I/O59 (io), 55 I/O60 (io), 56 I/O61 (io), 57 I/O62 (io), 58 I/O63 (io), 63 I/O64 (io), 64 I/O65 (io), 65 I/O66 (io), 66 I/O67 (io), 67 I/O68 (io), 68 I/O69 (io), 69 I/O70 (io), 70 I/O71 (io), 72 I/O72 (io), 73 I/O73 (io), 74 I/O74 (io), 75 I/O75 (io), 76 I/O76/SDO (io), 77 I/O77 (io), 78 I/O78 (io), 79 I/O79 (io), 82 I/O80 (io), 83 I/O81 (io), 84 I/O82 (io), 85 I/O83 (io), 86 I/O84 (io), 87 I/O85 (io), 88 I/O86 (io), 89 I/O87 (io), 91 I/O88 (io), 92 I/O89 (io), 93 I/O90 (io), 94 I/O91 (io), 95 I/O92 (io), 96 I/O93 (io), 97 I/O94 (io), 98 I/O95 (io), 103 I/O96 (io), 104 I/O97 (io), 105 I/O98 (io), 106 I/O99 (io), 107 I/O100 (io), 108 I/O101 (io), 109 I/O102 (io), 110 I/O103 (io), 112 I/O104 (io), 113 I/O105 (io), 114 I/O106 (io), 115 I/O107 (io), 116 I/O108/SDI (io), 117 I/O109 (io), 118 I/O110 (io), 119 I/O111 (io), 122 I/O112 (io), 123 I/O113 (io), 124 I/O114 (io), 125 I/O115 (io), 126 I/O116 (io), 127 I/O117 (io), 128 I/O118 (io), 129 I/O119 (io), 131 I/O120 (io), 132 I/O121 (io), 133 I/O122 (io), 134 I/O123 (io), 135 I/O124 (io), 136 I/O125 (io), 137 I/O126 (io), 138 I/O127 (io), 143 I/O0 (io), 144 I/O1 (io), 145 I/O2 (io), 146 I/O3 (io), 147 I/O4 (io), 148 I/O5 (io), 149 I/O6 (io), 150 I/O7 (io), 152 I/O8 (io), 153 I/O9 (io), 154 I/O10 (io), 155 I/O11 (io), 156 I/O12 (io), 157 I/O13 (io), 158 I/O14 (io), 159 I/O15 (io)
part B pins: 1 GND (power), 10 GND (power), 19 CLK0/IN0 (in), 20 VCCIO (power), 21 GND (power), 22 CLK1/IN1 (in), 31 GND (power), 40 VCCIO (power), 41 GND (power), 50 GND (power), 59 IN2 (in), 60 VCCIO (power), 61 GND (power), 62 VCCINT (power), 71 GND (power), 80 VCCIO (power), 81 GND (power), 90 GND (power), 99 CLK2/IN3 (in), 100 VCCIO (power), 101 GND (power), 102 CLK3/IN4 (in), 111 GND (power), 120 VCCIO (power), 121 GND (power), 130 GND (power), 139 ISREN (in), 140 VCCINT (power), 141 GND (power), 142 VCCIO (power), 151 GND (power), 160 VCCIO (power)
part A text: Block H; Block G; Block A; Block F; Block B; Block E; Block C; Block D

## CY7C375i-100AI
designator U?
Ultralogic 128-Macrocell Flash CPLD; ComponentAvailability: Not for New Design; Published: 11-Dec-2002; LatestRevisionDate: 13-Apr-2006; LatestRevisionNote: IPC-7351 Footprint Added.; DatasheetVersion: 10-Jul-2000; PackageVersion: Mar-2001; PackageReference: A160; Publisher: Altium Limited; PackageDescription: 160-Pin Thin Quad Flat Pack 0.5 mm Pitch; ComponentLink1Description: Manufacturer Link; ComponentLink1URL: http://www.cypress.com/; ComponentLink2Description: Datasheet; ComponentLink2URL: http://www.cypress.com/portal/server.pt/gateway/PTARGS_0_2_1524_209_259_43/http%3B/sjapp20.mis.cypress.com%3B7001/publishedcontent/publish/design_resources/datasheets/contents/cy7c375i_5.pdf
footprint A160_N (Thin QFP, 160-Leads, Body 24x24mm, Pitch 0.5mm, IPC Medium Density)
footprint A160_L (Thin QFP, 160-Leads, Body 24x24mm, Pitch 0.5mm, IPC High Density)
footprint A160_M (Thin QFP, 160-Leads, Body 24x24mm, Pitch 0.5mm, IPC Low Density)
3D model CY7C375i-A160 (160-Pin Thin Quad Flat Pack 0.5 mm Pitch)
part A pins: 2 I/O16 (io), 3 I/O17 (io), 4 I/O18 (io), 5 I/O19 (io), 6 I/O20/SCLK (io), 7 I/O21 (io), 8 I/O22 (io), 9 I/O23 (io), 11 I/O24 (io), 12 I/O25 (io), 13 I/O26 (io), 14 I/O27 (io), 15 I/O28 (io), 16 I/O29 (io), 17 I/O30 (io), 18 I/O31 (io), 23 I/O32 (io), 24 I/O33 (io), 25 I/O34 (io), 26 I/O35 (io), 27 I/O36 (io), 28 I/O37 (io), 29 I/O38 (io), 30 I/O39 (io), 32 I/O40 (io), 33 I/O41 (io), 34 I/O42 (io), 35 I/O43 (io), 36 I/O44 (io), 37 I/O45 (io), 38 I/O46 (io), 39 I/O47 (io), 42 I/O48 (io), 43 I/O49 (io), 44 I/O50 (io), 45 I/O51 (io), 46 I/O52/SMODE (io), 47 I/O53 (io), 48 I/O54 (io), 49 I/O55 (io), 51 I/O56 (io), 52 I/O57 (io), 53 I/O58 (io), 54 I/O59 (io), 55 I/O60 (io), 56 I/O61 (io), 57 I/O62 (io), 58 I/O63 (io), 63 I/O64 (io), 64 I/O65 (io), 65 I/O66 (io), 66 I/O67 (io), 67 I/O68 (io), 68 I/O69 (io), 69 I/O70 (io), 70 I/O71 (io), 72 I/O72 (io), 73 I/O73 (io), 74 I/O74 (io), 75 I/O75 (io), 76 I/O76/SDO (io), 77 I/O77 (io), 78 I/O78 (io), 79 I/O79 (io), 82 I/O80 (io), 83 I/O81 (io), 84 I/O82 (io), 85 I/O83 (io), 86 I/O84 (io), 87 I/O85 (io), 88 I/O86 (io), 89 I/O87 (io), 91 I/O88 (io), 92 I/O89 (io), 93 I/O90 (io), 94 I/O91 (io), 95 I/O92 (io), 96 I/O93 (io), 97 I/O94 (io), 98 I/O95 (io), 103 I/O96 (io), 104 I/O97 (io), 105 I/O98 (io), 106 I/O99 (io), 107 I/O100 (io), 108 I/O101 (io), 109 I/O102 (io), 110 I/O103 (io), 112 I/O104 (io), 113 I/O105 (io), 114 I/O106 (io), 115 I/O107 (io), 116 I/O108/SDI (io), 117 I/O109 (io), 118 I/O110 (io), 119 I/O111 (io), 122 I/O112 (io), 123 I/O113 (io), 124 I/O114 (io), 125 I/O115 (io), 126 I/O116 (io), 127 I/O117 (io), 128 I/O118 (io), 129 I/O119 (io), 131 I/O120 (io), 132 I/O121 (io), 133 I/O122 (io), 134 I/O123 (io), 135 I/O124 (io), 136 I/O125 (io), 137 I/O126 (io), 138 I/O127 (io), 143 I/O0 (io), 144 I/O1 (io), 145 I/O2 (io), 146 I/O3 (io), 147 I/O4 (io), 148 I/O5 (io), 149 I/O6 (io), 150 I/O7 (io), 152 I/O8 (io), 153 I/O9 (io), 154 I/O10 (io), 155 I/O11 (io), 156 I/O12 (io), 157 I/O13 (io), 158 I/O14 (io), 159 I/O15 (io)
part B pins: 1 GND (power), 10 GND (power), 19 CLK0/IN0 (in), 20 VCCIO (power), 21 GND (power), 22 CLK1/IN1 (in), 31 GND (power), 40 VCCIO (power), 41 GND (power), 50 GND (power), 59 IN2 (in), 60 VCCIO (power), 61 GND (power), 62 VCCINT (power), 71 GND (power), 80 VCCIO (power), 81 GND (power), 90 GND (power), 99 CLK2/IN3 (in), 100 VCCIO (power), 101 GND (power), 102 CLK3/IN4 (in), 111 GND (power), 120 VCCIO (power), 121 GND (power), 130 GND (power), 139 ISREN (in), 140 VCCINT (power), 141 GND (power), 142 VCCIO (power), 151 GND (power), 160 VCCIO (power)
part A text: Block H; Block G; Block A; Block F; Block B; Block E; Block C; Block D

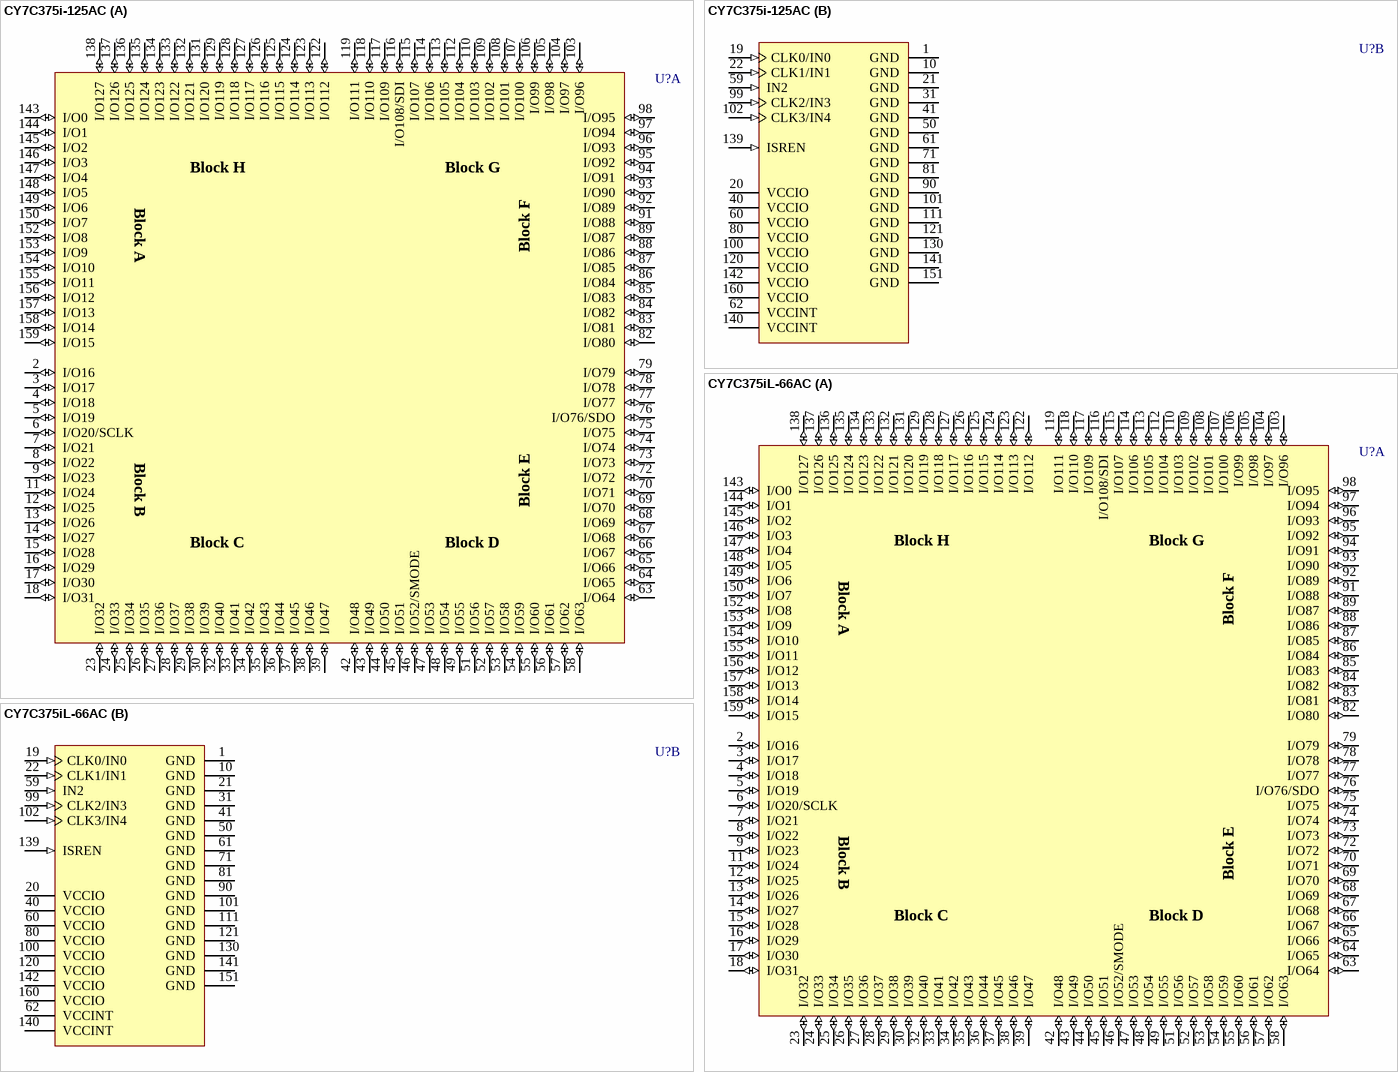
[diagram p18: symbols CY7C375i-125AC to CY7C375iL-66AC]

## CY7C375i-125AC
designator U?
Ultralogic 128-Macrocell Flash CPLD; ComponentAvailability: Not for New Design; Published: 11-Dec-2002; LatestRevisionDate: 13-Apr-2006; LatestRevisionNote: IPC-7351 Footprint Added.; DatasheetVersion: 10-Jul-2000; PackageVersion: Mar-2001; PackageReference: A160; Publisher: Altium Limited; PackageDescription: 160-Pin Thin Quad Flat Pack 0.5 mm Pitch; ComponentLink1Description: Manufacturer Link; ComponentLink1URL: http://www.cypress.com/; ComponentLink2Description: Datasheet; ComponentLink2URL: http://www.cypress.com/portal/server.pt/gateway/PTARGS_0_2_1524_209_259_43/http%3B/sjapp20.mis.cypress.com%3B7001/publishedcontent/publish/design_resources/datasheets/contents/cy7c375i_5.pdf
footprint A160_N (Thin QFP, 160-Leads, Body 24x24mm, Pitch 0.5mm, IPC Medium Density)
footprint A160_L (Thin QFP, 160-Leads, Body 24x24mm, Pitch 0.5mm, IPC High Density)
footprint A160_M (Thin QFP, 160-Leads, Body 24x24mm, Pitch 0.5mm, IPC Low Density)
3D model CY7C375i-A160 (160-Pin Thin Quad Flat Pack 0.5 mm Pitch)
part A pins: 2 I/O16 (io), 3 I/O17 (io), 4 I/O18 (io), 5 I/O19 (io), 6 I/O20/SCLK (io), 7 I/O21 (io), 8 I/O22 (io), 9 I/O23 (io), 11 I/O24 (io), 12 I/O25 (io), 13 I/O26 (io), 14 I/O27 (io), 15 I/O28 (io), 16 I/O29 (io), 17 I/O30 (io), 18 I/O31 (io), 23 I/O32 (io), 24 I/O33 (io), 25 I/O34 (io), 26 I/O35 (io), 27 I/O36 (io), 28 I/O37 (io), 29 I/O38 (io), 30 I/O39 (io), 32 I/O40 (io), 33 I/O41 (io), 34 I/O42 (io), 35 I/O43 (io), 36 I/O44 (io), 37 I/O45 (io), 38 I/O46 (io), 39 I/O47 (io), 42 I/O48 (io), 43 I/O49 (io), 44 I/O50 (io), 45 I/O51 (io), 46 I/O52/SMODE (io), 47 I/O53 (io), 48 I/O54 (io), 49 I/O55 (io), 51 I/O56 (io), 52 I/O57 (io), 53 I/O58 (io), 54 I/O59 (io), 55 I/O60 (io), 56 I/O61 (io), 57 I/O62 (io), 58 I/O63 (io), 63 I/O64 (io), 64 I/O65 (io), 65 I/O66 (io), 66 I/O67 (io), 67 I/O68 (io), 68 I/O69 (io), 69 I/O70 (io), 70 I/O71 (io), 72 I/O72 (io), 73 I/O73 (io), 74 I/O74 (io), 75 I/O75 (io), 76 I/O76/SDO (io), 77 I/O77 (io), 78 I/O78 (io), 79 I/O79 (io), 82 I/O80 (io), 83 I/O81 (io), 84 I/O82 (io), 85 I/O83 (io), 86 I/O84 (io), 87 I/O85 (io), 88 I/O86 (io), 89 I/O87 (io), 91 I/O88 (io), 92 I/O89 (io), 93 I/O90 (io), 94 I/O91 (io), 95 I/O92 (io), 96 I/O93 (io), 97 I/O94 (io), 98 I/O95 (io), 103 I/O96 (io), 104 I/O97 (io), 105 I/O98 (io), 106 I/O99 (io), 107 I/O100 (io), 108 I/O101 (io), 109 I/O102 (io), 110 I/O103 (io), 112 I/O104 (io), 113 I/O105 (io), 114 I/O106 (io), 115 I/O107 (io), 116 I/O108/SDI (io), 117 I/O109 (io), 118 I/O110 (io), 119 I/O111 (io), 122 I/O112 (io), 123 I/O113 (io), 124 I/O114 (io), 125 I/O115 (io), 126 I/O116 (io), 127 I/O117 (io), 128 I/O118 (io), 129 I/O119 (io), 131 I/O120 (io), 132 I/O121 (io), 133 I/O122 (io), 134 I/O123 (io), 135 I/O124 (io), 136 I/O125 (io), 137 I/O126 (io), 138 I/O127 (io), 143 I/O0 (io), 144 I/O1 (io), 145 I/O2 (io), 146 I/O3 (io), 147 I/O4 (io), 148 I/O5 (io), 149 I/O6 (io), 150 I/O7 (io), 152 I/O8 (io), 153 I/O9 (io), 154 I/O10 (io), 155 I/O11 (io), 156 I/O12 (io), 157 I/O13 (io), 158 I/O14 (io), 159 I/O15 (io)
part B pins: 1 GND (power), 10 GND (power), 19 CLK0/IN0 (in), 20 VCCIO (power), 21 GND (power), 22 CLK1/IN1 (in), 31 GND (power), 40 VCCIO (power), 41 GND (power), 50 GND (power), 59 IN2 (in), 60 VCCIO (power), 61 GND (power), 62 VCCINT (power), 71 GND (power), 80 VCCIO (power), 81 GND (power), 90 GND (power), 99 CLK2/IN3 (in), 100 VCCIO (power), 101 GND (power), 102 CLK3/IN4 (in), 111 GND (power), 120 VCCIO (power), 121 GND (power), 130 GND (power), 139 ISREN (in), 140 VCCINT (power), 141 GND (power), 142 VCCIO (power), 151 GND (power), 160 VCCIO (power)
part A text: Block H; Block G; Block A; Block F; Block B; Block E; Block C; Block D

## CY7C375iL-66AC
designator U?
Ultralogic 128-Macrocell Flash CPLD; ComponentAvailability: Not for New Design; Published: 11-Dec-2002; LatestRevisionDate: 13-Apr-2006; LatestRevisionNote: IPC-7351 Footprint Added.; DatasheetVersion: 10-Jul-2000; PackageVersion: Mar-2001; PackageReference: A160; Publisher: Altium Limited; PackageDescription: 160-Pin Thin Quad Flat Pack 0.5 mm Pitch; ComponentLink1Description: Manufacturer Link; ComponentLink1URL: http://www.cypress.com/; ComponentLink2Description: Datasheet; ComponentLink2URL: http://www.cypress.com/portal/server.pt/gateway/PTARGS_0_2_1524_209_259_43/http%3B/sjapp20.mis.cypress.com%3B7001/publishedcontent/publish/design_resources/datasheets/contents/cy7c375i_5.pdf
footprint A160_N (Thin QFP, 160-Leads, Body 24x24mm, Pitch 0.5mm, IPC Medium Density)
footprint A160_L (Thin QFP, 160-Leads, Body 24x24mm, Pitch 0.5mm, IPC High Density)
footprint A160_M (Thin QFP, 160-Leads, Body 24x24mm, Pitch 0.5mm, IPC Low Density)
3D model CY7C375iL-A160 (160-Pin Thin Quad Flat Pack 0.5 mm Pitch)
part A pins: 2 I/O16 (io), 3 I/O17 (io), 4 I/O18 (io), 5 I/O19 (io), 6 I/O20/SCLK (io), 7 I/O21 (io), 8 I/O22 (io), 9 I/O23 (io), 11 I/O24 (io), 12 I/O25 (io), 13 I/O26 (io), 14 I/O27 (io), 15 I/O28 (io), 16 I/O29 (io), 17 I/O30 (io), 18 I/O31 (io), 23 I/O32 (io), 24 I/O33 (io), 25 I/O34 (io), 26 I/O35 (io), 27 I/O36 (io), 28 I/O37 (io), 29 I/O38 (io), 30 I/O39 (io), 32 I/O40 (io), 33 I/O41 (io), 34 I/O42 (io), 35 I/O43 (io), 36 I/O44 (io), 37 I/O45 (io), 38 I/O46 (io), 39 I/O47 (io), 42 I/O48 (io), 43 I/O49 (io), 44 I/O50 (io), 45 I/O51 (io), 46 I/O52/SMODE (io), 47 I/O53 (io), 48 I/O54 (io), 49 I/O55 (io), 51 I/O56 (io), 52 I/O57 (io), 53 I/O58 (io), 54 I/O59 (io), 55 I/O60 (io), 56 I/O61 (io), 57 I/O62 (io), 58 I/O63 (io), 63 I/O64 (io), 64 I/O65 (io), 65 I/O66 (io), 66 I/O67 (io), 67 I/O68 (io), 68 I/O69 (io), 69 I/O70 (io), 70 I/O71 (io), 72 I/O72 (io), 73 I/O73 (io), 74 I/O74 (io), 75 I/O75 (io), 76 I/O76/SDO (io), 77 I/O77 (io), 78 I/O78 (io), 79 I/O79 (io), 82 I/O80 (io), 83 I/O81 (io), 84 I/O82 (io), 85 I/O83 (io), 86 I/O84 (io), 87 I/O85 (io), 88 I/O86 (io), 89 I/O87 (io), 91 I/O88 (io), 92 I/O89 (io), 93 I/O90 (io), 94 I/O91 (io), 95 I/O92 (io), 96 I/O93 (io), 97 I/O94 (io), 98 I/O95 (io), 103 I/O96 (io), 104 I/O97 (io), 105 I/O98 (io), 106 I/O99 (io), 107 I/O100 (io), 108 I/O101 (io), 109 I/O102 (io), 110 I/O103 (io), 112 I/O104 (io), 113 I/O105 (io), 114 I/O106 (io), 115 I/O107 (io), 116 I/O108/SDI (io), 117 I/O109 (io), 118 I/O110 (io), 119 I/O111 (io), 122 I/O112 (io), 123 I/O113 (io), 124 I/O114 (io), 125 I/O115 (io), 126 I/O116 (io), 127 I/O117 (io), 128 I/O118 (io), 129 I/O119 (io), 131 I/O120 (io), 132 I/O121 (io), 133 I/O122 (io), 134 I/O123 (io), 135 I/O124 (io), 136 I/O125 (io), 137 I/O126 (io), 138 I/O127 (io), 143 I/O0 (io), 144 I/O1 (io), 145 I/O2 (io), 146 I/O3 (io), 147 I/O4 (io), 148 I/O5 (io), 149 I/O6 (io), 150 I/O7 (io), 152 I/O8 (io), 153 I/O9 (io), 154 I/O10 (io), 155 I/O11 (io), 156 I/O12 (io), 157 I/O13 (io), 158 I/O14 (io), 159 I/O15 (io)
part B pins: 1 GND (power), 10 GND (power), 19 CLK0/IN0 (in), 20 VCCIO (power), 21 GND (power), 22 CLK1/IN1 (in), 31 GND (power), 40 VCCIO (power), 41 GND (power), 50 GND (power), 59 IN2 (in), 60 VCCIO (power), 61 GND (power), 62 VCCINT (power), 71 GND (power), 80 VCCIO (power), 81 GND (power), 90 GND (power), 99 CLK2/IN3 (in), 100 VCCIO (power), 101 GND (power), 102 CLK3/IN4 (in), 111 GND (power), 120 VCCIO (power), 121 GND (power), 130 GND (power), 139 ISREN (in), 140 VCCINT (power), 141 GND (power), 142 VCCIO (power), 151 GND (power), 160 VCCIO (power)
part A text: Block H; Block G; Block A; Block F; Block B; Block E; Block C; Block D

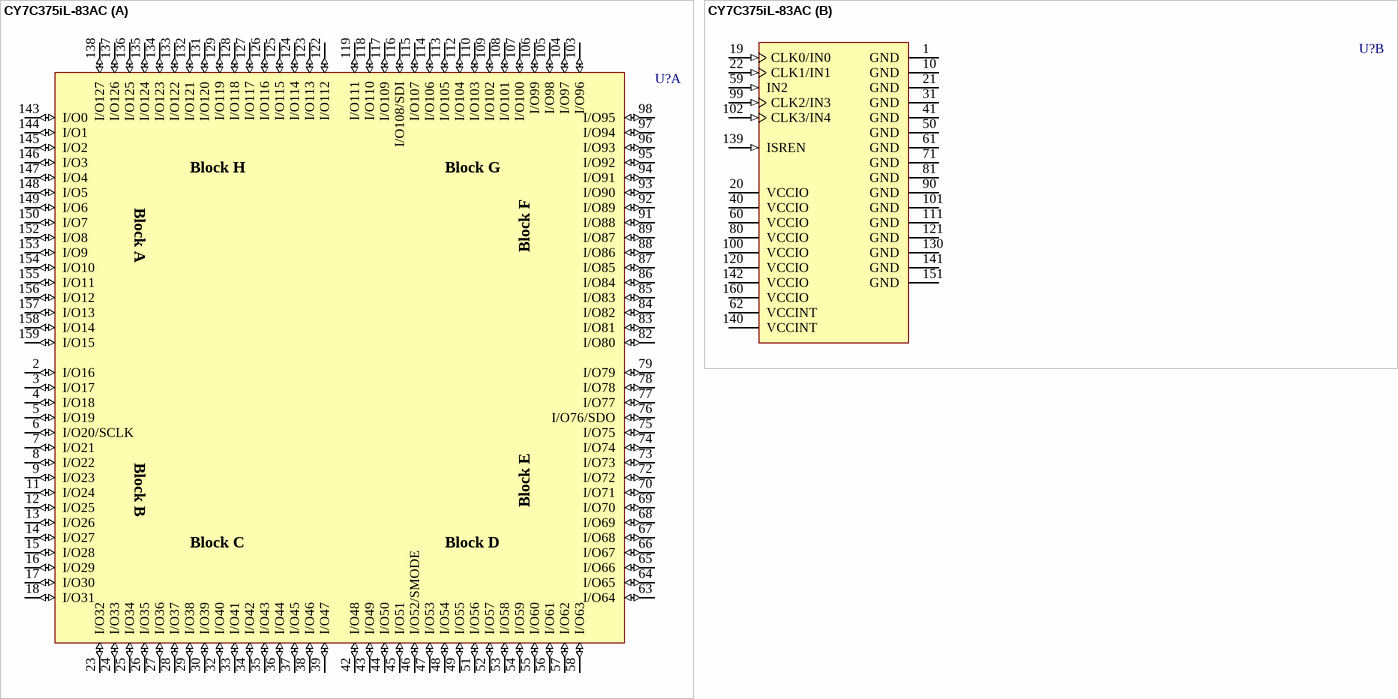
[diagram p19: symbol CY7C375iL-83AC]

## CY7C375iL-83AC
designator U?
Ultralogic 128-Macrocell Flash CPLD; ComponentAvailability: Not for New Design; Published: 11-Dec-2002; LatestRevisionDate: 13-Apr-2006; LatestRevisionNote: IPC-7351 Footprint Added.; DatasheetVersion: 10-Jul-2000; PackageVersion: Mar-2001; PackageReference: A160; Publisher: Altium Limited; PackageDescription: 160-Pin Thin Quad Flat Pack 0.5 mm Pitch; ComponentLink1Description: Manufacturer Link; ComponentLink1URL: http://www.cypress.com/; ComponentLink2Description: Datasheet; ComponentLink2URL: http://www.cypress.com/portal/server.pt/gateway/PTARGS_0_2_1524_209_259_43/http%3B/sjapp20.mis.cypress.com%3B7001/publishedcontent/publish/design_resources/datasheets/contents/cy7c375i_5.pdf
footprint A160_N (Thin QFP, 160-Leads, Body 24x24mm, Pitch 0.5mm, IPC Medium Density)
footprint A160_L (Thin QFP, 160-Leads, Body 24x24mm, Pitch 0.5mm, IPC High Density)
footprint A160_M (Thin QFP, 160-Leads, Body 24x24mm, Pitch 0.5mm, IPC Low Density)
3D model CY7C375iL-A160 (160-Pin Thin Quad Flat Pack 0.5 mm Pitch)
part A pins: 2 I/O16 (io), 3 I/O17 (io), 4 I/O18 (io), 5 I/O19 (io), 6 I/O20/SCLK (io), 7 I/O21 (io), 8 I/O22 (io), 9 I/O23 (io), 11 I/O24 (io), 12 I/O25 (io), 13 I/O26 (io), 14 I/O27 (io), 15 I/O28 (io), 16 I/O29 (io), 17 I/O30 (io), 18 I/O31 (io), 23 I/O32 (io), 24 I/O33 (io), 25 I/O34 (io), 26 I/O35 (io), 27 I/O36 (io), 28 I/O37 (io), 29 I/O38 (io), 30 I/O39 (io), 32 I/O40 (io), 33 I/O41 (io), 34 I/O42 (io), 35 I/O43 (io), 36 I/O44 (io), 37 I/O45 (io), 38 I/O46 (io), 39 I/O47 (io), 42 I/O48 (io), 43 I/O49 (io), 44 I/O50 (io), 45 I/O51 (io), 46 I/O52/SMODE (io), 47 I/O53 (io), 48 I/O54 (io), 49 I/O55 (io), 51 I/O56 (io), 52 I/O57 (io), 53 I/O58 (io), 54 I/O59 (io), 55 I/O60 (io), 56 I/O61 (io), 57 I/O62 (io), 58 I/O63 (io), 63 I/O64 (io), 64 I/O65 (io), 65 I/O66 (io), 66 I/O67 (io), 67 I/O68 (io), 68 I/O69 (io), 69 I/O70 (io), 70 I/O71 (io), 72 I/O72 (io), 73 I/O73 (io), 74 I/O74 (io), 75 I/O75 (io), 76 I/O76/SDO (io), 77 I/O77 (io), 78 I/O78 (io), 79 I/O79 (io), 82 I/O80 (io), 83 I/O81 (io), 84 I/O82 (io), 85 I/O83 (io), 86 I/O84 (io), 87 I/O85 (io), 88 I/O86 (io), 89 I/O87 (io), 91 I/O88 (io), 92 I/O89 (io), 93 I/O90 (io), 94 I/O91 (io), 95 I/O92 (io), 96 I/O93 (io), 97 I/O94 (io), 98 I/O95 (io), 103 I/O96 (io), 104 I/O97 (io), 105 I/O98 (io), 106 I/O99 (io), 107 I/O100 (io), 108 I/O101 (io), 109 I/O102 (io), 110 I/O103 (io), 112 I/O104 (io), 113 I/O105 (io), 114 I/O106 (io), 115 I/O107 (io), 116 I/O108/SDI (io), 117 I/O109 (io), 118 I/O110 (io), 119 I/O111 (io), 122 I/O112 (io), 123 I/O113 (io), 124 I/O114 (io), 125 I/O115 (io), 126 I/O116 (io), 127 I/O117 (io), 128 I/O118 (io), 129 I/O119 (io), 131 I/O120 (io), 132 I/O121 (io), 133 I/O122 (io), 134 I/O123 (io), 135 I/O124 (io), 136 I/O125 (io), 137 I/O126 (io), 138 I/O127 (io), 143 I/O0 (io), 144 I/O1 (io), 145 I/O2 (io), 146 I/O3 (io), 147 I/O4 (io), 148 I/O5 (io), 149 I/O6 (io), 150 I/O7 (io), 152 I/O8 (io), 153 I/O9 (io), 154 I/O10 (io), 155 I/O11 (io), 156 I/O12 (io), 157 I/O13 (io), 158 I/O14 (io), 159 I/O15 (io)
part B pins: 1 GND (power), 10 GND (power), 19 CLK0/IN0 (in), 20 VCCIO (power), 21 GND (power), 22 CLK1/IN1 (in), 31 GND (power), 40 VCCIO (power), 41 GND (power), 50 GND (power), 59 IN2 (in), 60 VCCIO (power), 61 GND (power), 62 VCCINT (power), 71 GND (power), 80 VCCIO (power), 81 GND (power), 90 GND (power), 99 CLK2/IN3 (in), 100 VCCIO (power), 101 GND (power), 102 CLK3/IN4 (in), 111 GND (power), 120 VCCIO (power), 121 GND (power), 130 GND (power), 139 ISREN (in), 140 VCCINT (power), 141 GND (power), 142 VCCIO (power), 151 GND (power), 160 VCCIO (power)
part A text: Block H; Block G; Block A; Block F; Block B; Block E; Block C; Block D